# Altium schematic symbol library SCH - MCU - STM32 - ST MICROELECTRONICS STM32H747IITX LQFP176.SchLib: 1 symbol
Pins are listed as number, name and electrical type; pins without a type are passive.

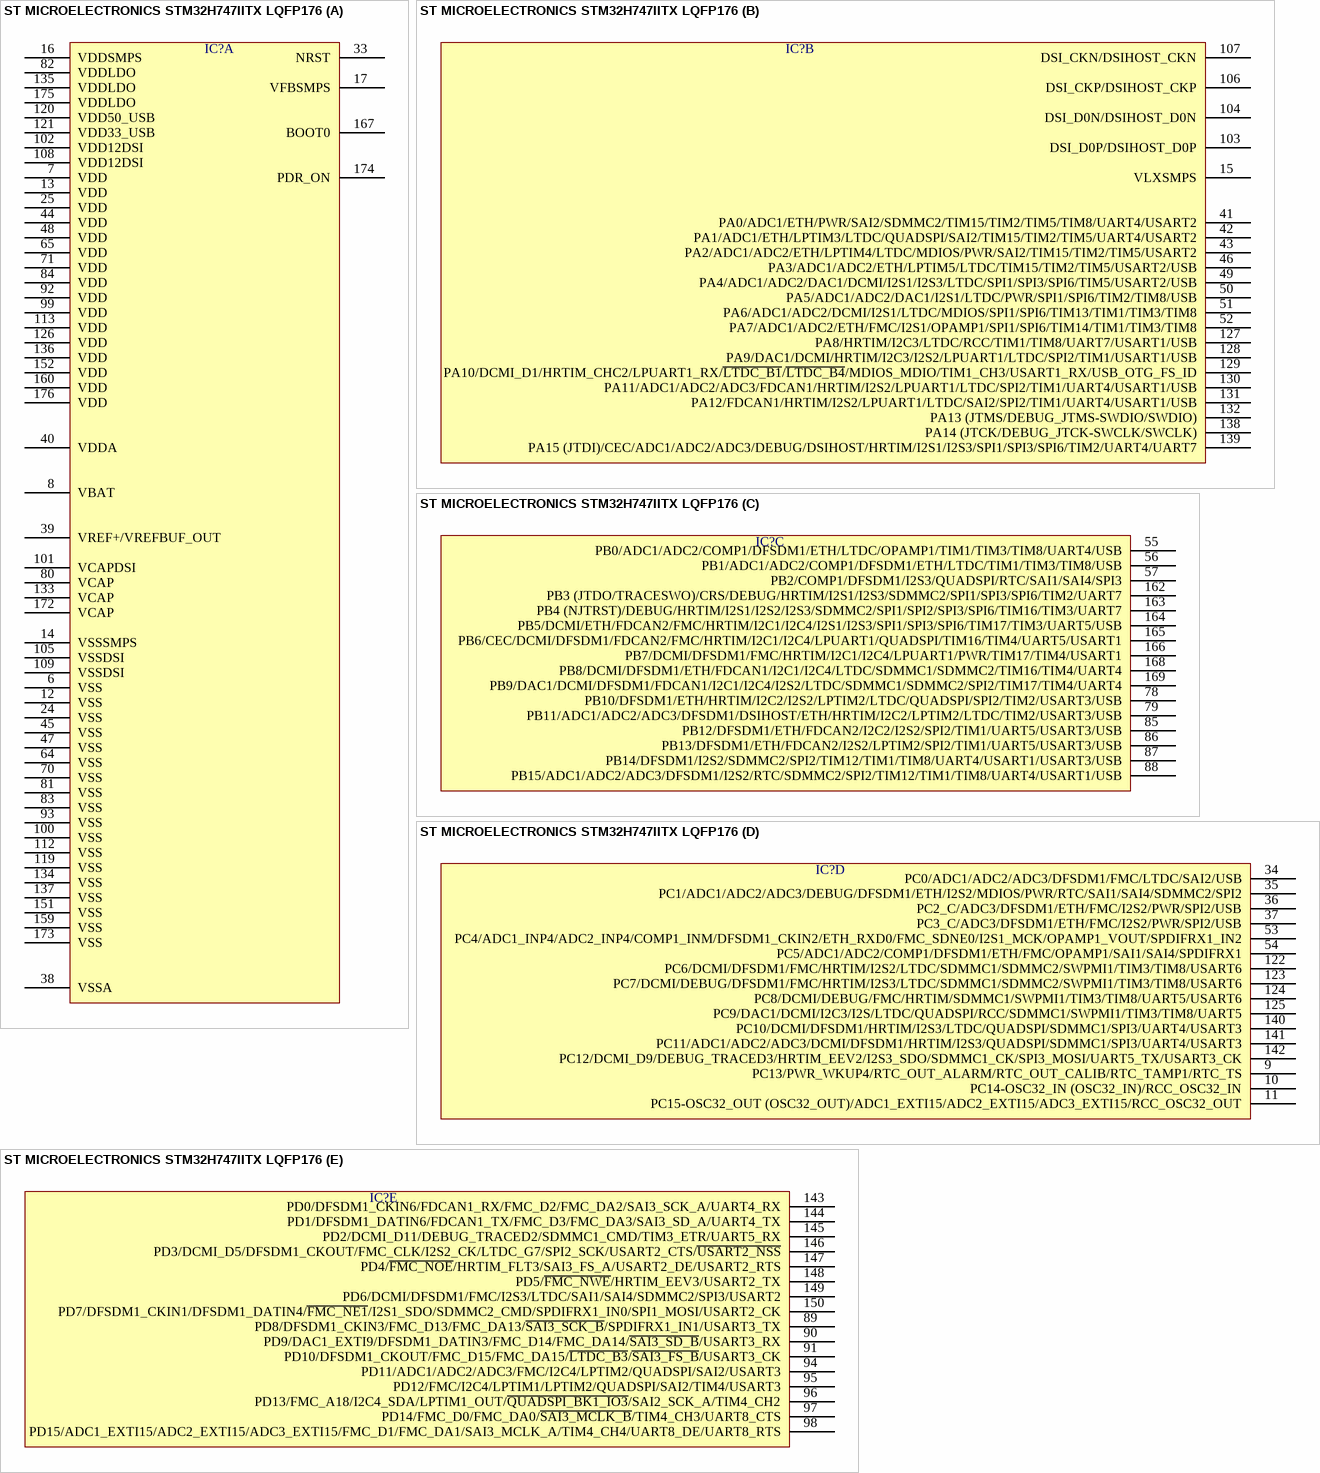
[diagram p0: symbol ST MICROELECTRONICS STM32H747IITX LQFP176]

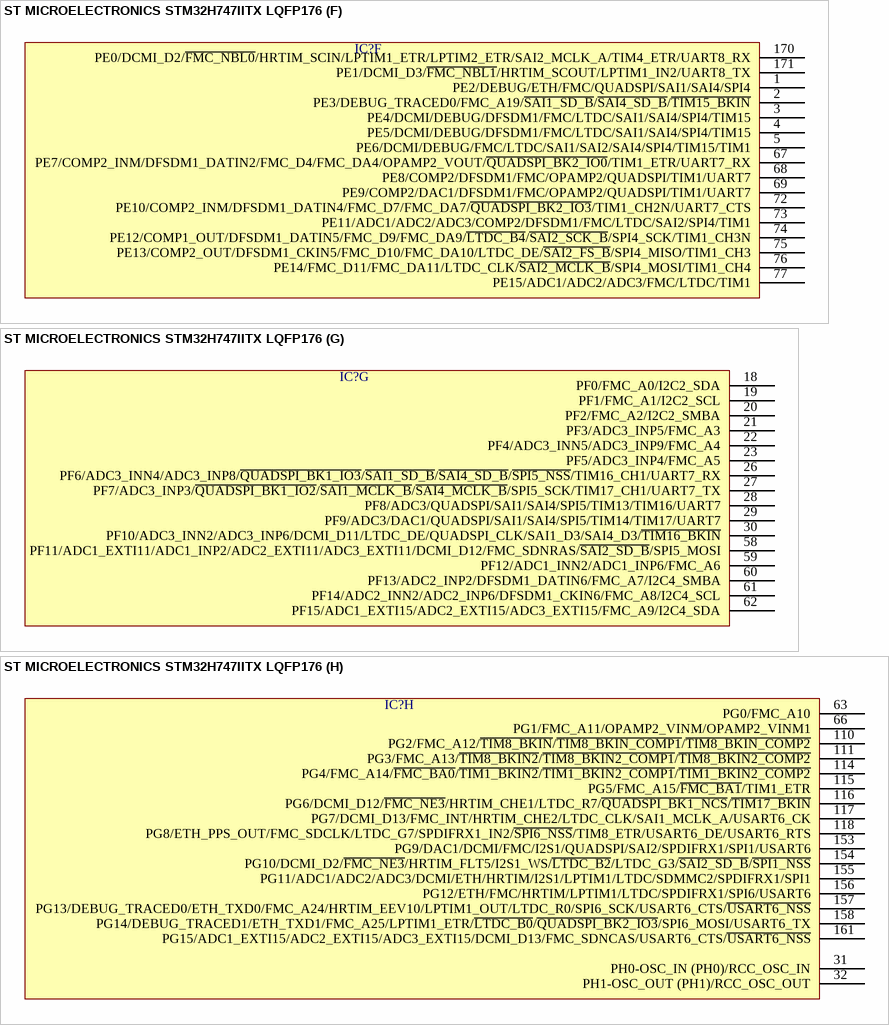
[diagram p1: symbol ST MICROELECTRONICS STM32H747IITX LQFP176]

## ST MICROELECTRONICS STM32H747IITX LQFP176
designator IC?  (value not drawn)
part A pins: 6 VSS, 7 VDD, 8 VBAT, 12 VSS, 13 VDD, 14 VSSSMPS, 16 VDDSMPS, 17 VFBSMPS, 24 VSS, 25 VDD, 33 NRST, 38 VSSA, 39 VREF+/VREFBUF_OUT, 40 VDDA, 44 VDD, 45 VSS, 47 VSS, 48 VDD, 64 VSS, 65 VDD, 70 VSS, 71 VDD, 80 VCAP, 81 VSS, 82 VDDLDO, 83 VSS, 84 VDD, 92 VDD, 93 VSS, 99 VDD, 100 VSS, 101 VCAPDSI, 102 VDD12DSI, 105 VSSDSI, 108 VDD12DSI, 109 VSSDSI, 112 VSS, 113 VDD, 119 VSS, 120 VDD50_USB, 121 VDD33_USB, 126 VDD, 133 VCAP, 134 VSS, 135 VDDLDO, 136 VDD, 137 VSS, 151 VSS, 152 VDD, 159 VSS, 160 VDD, 167 BOOT0, 172 VCAP, 173 VSS, 174 PDR_ON, 175 VDDLDO, 176 VDD
part B pins: 15 VLXSMPS, 41 PA0/ADC1/ETH/PWR/SAI2/SDMMC2/TIM15/TIM2/TIM5/TIM8/UART4/USART2, 42 PA1/ADC1/ETH/LPTIM3/LTDC/QUADSPI/SAI2/TIM15/TIM2/TIM5/UART4/USART2, 43 PA2/ADC1/ADC2/ETH/LPTIM4/LTDC/MDIOS/PWR/SAI2/TIM15/TIM2/TIM5/USART2, 46 PA3/ADC1/ADC2/ETH/LPTIM5/LTDC/TIM15/TIM2/TIM5/USART2/USB, 49 PA4/ADC1/ADC2/DAC1/DCMI/I2S1/I2S3/LTDC/SPI1/SPI3/SPI6/TIM5/USART2/USB, 50 PA5/ADC1/ADC2/DAC1/I2S1/LTDC/PWR/SPI1/SPI6/TIM2/TIM8/USB, 51 PA6/ADC1/ADC2/DCMI/I2S1/LTDC/MDIOS/SPI1/SPI6/TIM13/TIM1/TIM3/TIM8, 52 PA7/ADC1/ADC2/ETH/FMC/I2S1/OPAMP1/SPI1/SPI6/TIM14/TIM1/TIM3/TIM8, 103 DSI_D0P/DSIHOST_D0P, 104 DSI_D0N/DSIHOST_D0N, 106 DSI_CKP/DSIHOST_CKP, 107 DSI_CKN/DSIHOST_CKN, 127 PA8/HRTIM/I2C3/LTDC/RCC/TIM1/TIM8/UART7/USART1/USB, 128 PA9/DAC1/DCMI/HRTIM/I2C3/I2S2/LPUART1/LTDC/SPI2/TIM1/USART1/USB, 129 PA10/DCMI_D1/HRTIM_CHC2/LPUART1_RX/~{LTDC_B1}/~{LTDC_B4}/MDIOS_MDIO/TIM1_CH3/USART1_RX/USB_OTG_FS_ID, 130 PA11/ADC1/ADC2/ADC3/FDCAN1/HRTIM/I2S2/LPUART1/LTDC/SPI2/TIM1/UART4/USART1/USB, 131 PA12/FDCAN1/HRTIM/I2S2/LPUART1/LTDC/SAI2/SPI2/TIM1/UART4/USART1/USB, 132 PA13 (JTMS/DEBUG_JTMS-SWDIO/SWDIO), 138 PA14 (JTCK/DEBUG_JTCK-SWCLK/SWCLK), 139 PA15 (JTDI)/CEC/ADC1/ADC2/ADC3/DEBUG/DSIHOST/HRTIM/I2S1/I2S3/SPI1/SPI3/SPI6/TIM2/UART4/UART7
part C pins: 55 PB0/ADC1/ADC2/COMP1/DFSDM1/ETH/LTDC/OPAMP1/TIM1/TIM3/TIM8/UART4/USB, 56 PB1/ADC1/ADC2/COMP1/DFSDM1/ETH/LTDC/TIM1/TIM3/TIM8/USB, 57 PB2/COMP1/DFSDM1/I2S3/QUADSPI/RTC/SAI1/SAI4/SPI3, 78 PB10/DFSDM1/ETH/HRTIM/I2C2/I2S2/LPTIM2/LTDC/QUADSPI/SPI2/TIM2/USART3/USB, 79 PB11/ADC1/ADC2/ADC3/DFSDM1/DSIHOST/ETH/HRTIM/I2C2/LPTIM2/LTDC/TIM2/USART3/USB, 85 PB12/DFSDM1/ETH/FDCAN2/I2C2/I2S2/SPI2/TIM1/UART5/USART3/USB, 86 PB13/DFSDM1/ETH/FDCAN2/I2S2/LPTIM2/SPI2/TIM1/UART5/USART3/USB, 87 PB14/DFSDM1/I2S2/SDMMC2/SPI2/TIM12/TIM1/TIM8/UART4/USART1/USART3/USB, 88 PB15/ADC1/ADC2/ADC3/DFSDM1/I2S2/RTC/SDMMC2/SPI2/TIM12/TIM1/TIM8/UART4/USART1/USB, 162 PB3 (JTDO/TRACESWO)/CRS/DEBUG/HRTIM/I2S1/I2S3/SDMMC2/SPI1/SPI3/SPI6/TIM2/UART7, 163 PB4 (NJTRST)/DEBUG/HRTIM/I2S1/I2S2/I2S3/SDMMC2/SPI1/SPI2/SPI3/SPI6/TIM16/TIM3/UART7, 164 PB5/DCMI/ETH/FDCAN2/FMC/HRTIM/I2C1/I2C4/I2S1/I2S3/SPI1/SPI3/SPI6/TIM17/TIM3/UART5/USB, 165 PB6/CEC/DCMI/DFSDM1/FDCAN2/FMC/HRTIM/I2C1/I2C4/LPUART1/QUADSPI/TIM16/TIM4/UART5/USART1, 166 PB7/DCMI/DFSDM1/FMC/HRTIM/I2C1/I2C4/LPUART1/PWR/TIM17/TIM4/USART1, 168 PB8/DCMI/DFSDM1/ETH/FDCAN1/I2C1/I2C4/LTDC/SDMMC1/SDMMC2/TIM16/TIM4/UART4, 169 PB9/DAC1/DCMI/DFSDM1/FDCAN1/I2C1/I2C4/I2S2/LTDC/SDMMC1/SDMMC2/SPI2/TIM17/TIM4/UART4
part D pins: 9 PC13/PWR_WKUP4/RTC_OUT_ALARM/RTC_OUT_CALIB/RTC_TAMP1/RTC_TS, 10 PC14-OSC32_IN (OSC32_IN)/RCC_OSC32_IN, 11 PC15-OSC32_OUT (OSC32_OUT)/ADC1_EXTI15/ADC2_EXTI15/ADC3_EXTI15/RCC_OSC32_OUT, 34 PC0/ADC1/ADC2/ADC3/DFSDM1/FMC/LTDC/SAI2/USB, 35 PC1/ADC1/ADC2/ADC3/DEBUG/DFSDM1/ETH/I2S2/MDIOS/PWR/RTC/SAI1/SAI4/SDMMC2/SPI2, 36 PC2_C/ADC3/DFSDM1/ETH/FMC/I2S2/PWR/SPI2/USB, 37 PC3_C/ADC3/DFSDM1/ETH/FMC/I2S2/PWR/SPI2/USB, 53 PC4/ADC1_INP4/ADC2_INP4/COMP1_INM/DFSDM1_CKIN2/ETH_RXD0/FMC_SDNE0/I2S1_MCK/OPAMP1_VOUT/SPDIFRX1_IN2, 54 PC5/ADC1/ADC2/COMP1/DFSDM1/ETH/FMC/OPAMP1/SAI1/SAI4/SPDIFRX1, 122 PC6/DCMI/DFSDM1/FMC/HRTIM/I2S2/LTDC/SDMMC1/SDMMC2/SWPMI1/TIM3/TIM8/USART6, 123 PC7/DCMI/DEBUG/DFSDM1/FMC/HRTIM/I2S3/LTDC/SDMMC1/SDMMC2/SWPMI1/TIM3/TIM8/USART6, 124 PC8/DCMI/DEBUG/FMC/HRTIM/SDMMC1/SWPMI1/TIM3/TIM8/UART5/USART6, 125 PC9/DAC1/DCMI/I2C3/I2S/LTDC/QUADSPI/RCC/SDMMC1/SWPMI1/TIM3/TIM8/UART5, 140 PC10/DCMI/DFSDM1/HRTIM/I2S3/LTDC/QUADSPI/SDMMC1/SPI3/UART4/USART3, 141 PC11/ADC1/ADC2/ADC3/DCMI/DFSDM1/HRTIM/I2S3/QUADSPI/SDMMC1/SPI3/UART4/USART3, 142 PC12/DCMI_D9/DEBUG_TRACED3/HRTIM_EEV2/I2S3_SDO/SDMMC1_CK/SPI3_MOSI/UART5_TX/USART3_CK
part E pins: 89 PD8/DFSDM1_CKIN3/FMC_D13/FMC_DA13/~{SAI3_SCK_B}/SPDIFRX1_IN1/USART3_TX, 90 PD9/DAC1_EXTI9/DFSDM1_DATIN3/FMC_D14/FMC_DA14/~{SAI3_SD_B}/USART3_RX, 91 PD10/DFSDM1_CKOUT/FMC_D15/FMC_DA15/~{LTDC_B3}/~{SAI3_FS_B}/USART3_CK, 94 PD11/ADC1/ADC2/ADC3/FMC/I2C4/LPTIM2/QUADSPI/SAI2/USART3, 95 PD12/FMC/I2C4/LPTIM1/LPTIM2/QUADSPI/SAI2/TIM4/USART3, 96 PD13/FMC_A18/I2C4_SDA/LPTIM1_OUT/~{QUADSPI_BK1_IO3}/SAI2_SCK_A/TIM4_CH2, 97 PD14/FMC_D0/FMC_DA0/~{SAI3_MCLK_B}/TIM4_CH3/UART8_CTS, 98 PD15/ADC1_EXTI15/ADC2_EXTI15/ADC3_EXTI15/FMC_D1/FMC_DA1/SAI3_MCLK_A/TIM4_CH4/UART8_DE/UART8_RTS, 143 PD0/DFSDM1_CKIN6/FDCAN1_RX/FMC_D2/FMC_DA2/SAI3_SCK_A/UART4_RX, 144 PD1/DFSDM1_DATIN6/FDCAN1_TX/FMC_D3/FMC_DA3/SAI3_SD_A/UART4_TX, 145 PD2/DCMI_D11/DEBUG_TRACED2/SDMMC1_CMD/TIM3_ETR/UART5_RX, 146 PD3/DCMI_D5/DFSDM1_CKOUT/FMC_CLK/I2S2_CK/LTDC_G7/SPI2_SCK/USART2_CTS/~{USART2_NSS}, 147 PD4/~{FMC_NOE}/HRTIM_FLT3/SAI3_FS_A/USART2_DE/USART2_RTS, 148 PD5/~{FMC_NWE}/HRTIM_EEV3/USART2_TX, 149 PD6/DCMI/DFSDM1/FMC/I2S3/LTDC/SAI1/SAI4/SDMMC2/SPI3/USART2, 150 PD7/DFSDM1_CKIN1/DFSDM1_DATIN4/~{FMC_NE1}/I2S1_SDO/SDMMC2_CMD/SPDIFRX1_IN0/SPI1_MOSI/USART2_CK
part F pins: 1 PE2/DEBUG/ETH/FMC/QUADSPI/SAI1/SAI4/SPI4, 2 PE3/DEBUG_TRACED0/FMC_A19/~{SAI1_SD_B}/~{SAI4_SD_B}/~{TIM15_BKIN}, 3 PE4/DCMI/DEBUG/DFSDM1/FMC/LTDC/SAI1/SAI4/SPI4/TIM15, 4 PE5/DCMI/DEBUG/DFSDM1/FMC/LTDC/SAI1/SAI4/SPI4/TIM15, 5 PE6/DCMI/DEBUG/FMC/LTDC/SAI1/SAI2/SAI4/SPI4/TIM15/TIM1, 67 PE7/COMP2_INM/DFSDM1_DATIN2/FMC_D4/FMC_DA4/OPAMP2_VOUT/~{QUADSPI_BK2_IO0}/TIM1_ETR/UART7_RX, 68 PE8/COMP2/DFSDM1/FMC/OPAMP2/QUADSPI/TIM1/UART7, 69 PE9/COMP2/DAC1/DFSDM1/FMC/OPAMP2/QUADSPI/TIM1/UART7, 72 PE10/COMP2_INM/DFSDM1_DATIN4/FMC_D7/FMC_DA7/~{QUADSPI_BK2_IO3}/TIM1_CH2N/UART7_CTS, 73 PE11/ADC1/ADC2/ADC3/COMP2/DFSDM1/FMC/LTDC/SAI2/SPI4/TIM1, 74 PE12/COMP1_OUT/DFSDM1_DATIN5/FMC_D9/FMC_DA9/~{LTDC_B4}/~{SAI2_SCK_B}/SPI4_SCK/TIM1_CH3N, 75 PE13/COMP2_OUT/DFSDM1_CKIN5/FMC_D10/FMC_DA10/LTDC_DE/~{SAI2_FS_B}/SPI4_MISO/TIM1_CH3, 76 PE14/FMC_D11/FMC_DA11/LTDC_CLK/~{SAI2_MCLK_B}/SPI4_MOSI/TIM1_CH4, 77 PE15/ADC1/ADC2/ADC3/FMC/LTDC/TIM1, 170 PE0/DCMI_D2/~{FMC_NBL0}/HRTIM_SCIN/LPTIM1_ETR/LPTIM2_ETR/SAI2_MCLK_A/TIM4_ETR/UART8_RX, 171 PE1/DCMI_D3/~{FMC_NBL1}/HRTIM_SCOUT/LPTIM1_IN2/UART8_TX
part G pins: 18 PF0/FMC_A0/I2C2_SDA, 19 PF1/FMC_A1/I2C2_SCL, 20 PF2/FMC_A2/I2C2_SMBA, 21 PF3/ADC3_INP5/FMC_A3, 22 PF4/ADC3_INN5/ADC3_INP9/FMC_A4, 23 PF5/ADC3_INP4/FMC_A5, 26 PF6/ADC3_INN4/ADC3_INP8/~{QUADSPI_BK1_IO3}/~{SAI1_SD_B}/~{SAI4_SD_B}/~{SPI5_NSS}/TIM16_CH1/UART7_RX, 27 PF7/ADC3_INP3/~{QUADSPI_BK1_IO2}/~{SAI1_MCLK_B}/~{SAI4_MCLK_B}/SPI5_SCK/TIM17_CH1/UART7_TX, 28 PF8/ADC3/QUADSPI/SAI1/SAI4/SPI5/TIM13/TIM16/UART7, 29 PF9/ADC3/DAC1/QUADSPI/SAI1/SAI4/SPI5/TIM14/TIM17/UART7, 30 PF10/ADC3_INN2/ADC3_INP6/DCMI_D11/LTDC_DE/QUADSPI_CLK/SAI1_D3/SAI4_D3/~{TIM16_BKIN}, 58 PF11/ADC1_EXTI11/ADC1_INP2/ADC2_EXTI11/ADC3_EXTI11/DCMI_D12/FMC_SDNRAS/~{SAI2_SD_B}/SPI5_MOSI, 59 PF12/ADC1_INN2/ADC1_INP6/FMC_A6, 60 PF13/ADC2_INP2/DFSDM1_DATIN6/FMC_A7/I2C4_SMBA, 61 PF14/ADC2_INN2/ADC2_INP6/DFSDM1_CKIN6/FMC_A8/I2C4_SCL, 62 PF15/ADC1_EXTI15/ADC2_EXTI15/ADC3_EXTI15/FMC_A9/I2C4_SDA
part H pins: 31 PH0-OSC_IN (PH0)/RCC_OSC_IN, 32 PH1-OSC_OUT (PH1)/RCC_OSC_OUT, 63 PG0/FMC_A10, 66 PG1/FMC_A11/OPAMP2_VINM/OPAMP2_VINM1, 110 PG2/FMC_A12/~{TIM8_BKIN}/~{TIM8_BKIN_COMP1}/~{TIM8_BKIN_COMP2}, 111 PG3/FMC_A13/~{TIM8_BKIN2}/~{TIM8_BKIN2_COMP1}/~{TIM8_BKIN2_COMP2}, 114 PG4/FMC_A14/~{FMC_BA0}/~{TIM1_BKIN2}/~{TIM1_BKIN2_COMP1}/~{TIM1_BKIN2_COMP2}, 115 PG5/FMC_A15/~{FMC_BA1}/TIM1_ETR, 116 PG6/DCMI_D12/~{FMC_NE3}/HRTIM_CHE1/LTDC_R7/~{QUADSPI_BK1_NCS}/~{TIM17_BKIN}, 117 PG7/DCMI_D13/FMC_INT/HRTIM_CHE2/LTDC_CLK/SAI1_MCLK_A/USART6_CK, 118 PG8/ETH_PPS_OUT/FMC_SDCLK/LTDC_G7/SPDIFRX1_IN2/~{SPI6_NSS}/TIM8_ETR/USART6_DE/USART6_RTS, 153 PG9/DAC1/DCMI/FMC/I2S1/QUADSPI/SAI2/SPDIFRX1/SPI1/USART6, 154 PG10/DCMI_D2/~{FMC_NE3}/HRTIM_FLT5/I2S1_WS/~{LTDC_B2}/LTDC_G3/~{SAI2_SD_B}/~{SPI1_NSS}, 155 PG11/ADC1/ADC2/ADC3/DCMI/ETH/HRTIM/I2S1/LPTIM1/LTDC/SDMMC2/SPDIFRX1/SPI1, 156 PG12/ETH/FMC/HRTIM/LPTIM1/LTDC/SPDIFRX1/SPI6/USART6, 157 PG13/DEBUG_TRACED0/ETH_TXD0/FMC_A24/HRTIM_EEV10/LPTIM1_OUT/LTDC_R0/SPI6_SCK/USART6_CTS/~{USART6_NSS}, 158 PG14/DEBUG_TRACED1/ETH_TXD1/FMC_A25/LPTIM1_ETR/~{LTDC_B0}/~{QUADSPI_BK2_IO3}/SPI6_MOSI/USART6_TX, 161 PG15/ADC1_EXTI15/ADC2_EXTI15/ADC3_EXTI15/DCMI_D13/FMC_SDNCAS/USART6_CTS/~{USART6_NSS}